# Altium footprint library 541020504.PcbLib: 1 footprints
Each footprint in its own frame and in the unit in brackets; x right, y up, seen from the top. Pads: shape width x height; smd on the part's side, far side on the other; paste and mask are expansions set on the pad; w line width, h text height; cw(c..) or ccw(c..) is an arc to the next point about the centre after c.
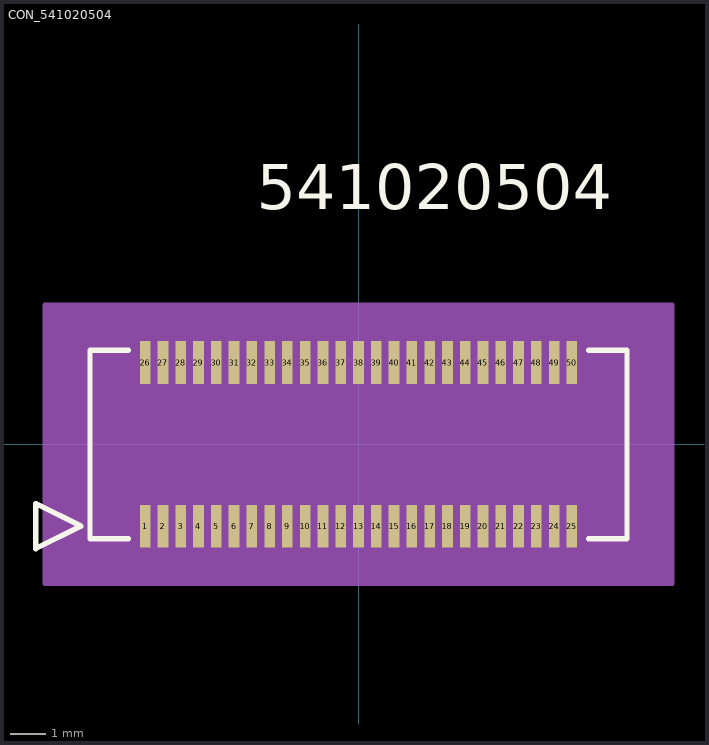
[diagram p0: the footprint, top view; thin cyan lines are the x and y axes]

## CON_541020504 [mm]
pads (50):
  rect 0.3x1.2 smd paste+0 mask+0.076: 1(-6,-2.3) 2(-5.5,-2.3) 3(-5,-2.3) 4(-4.5,-2.3) 5(-4,-2.3) 6(-3.5,-2.3) 7(-3,-2.3) 8(-2.5,-2.3) 9(-2,-2.3) 10(-1.5,-2.3) 11(-1,-2.3) 12(-0.5,-2.3) 13(0,-2.3) 14(0.5,-2.3) 15(1,-2.3) 16(1.5,-2.3) 17(2,-2.3) 18(2.5,-2.3) 19(3,-2.3) 20(3.5,-2.3) 21(4,-2.3) 22(4.5,-2.3) 23(5,-2.3) 24(5.5,-2.3) 25(6,-2.3) 26(-6,2.3) 27(-5.5,2.3) 28(-5,2.3) 29(-4.5,2.3) 30(-4,2.3) 31(-3.5,2.3) 32(-3,2.3) 33(-2.5,2.3) 34(-2,2.3) 35(-1.5,2.3) 36(-1,2.3) 37(-0.5,2.3) 38(0,2.3) 39(0.5,2.3) 40(1,2.3) 41(1.5,2.3) 42(2,2.3) 43(2.5,2.3) 44(3,2.3) 45(3.5,2.3) 46(4,2.3) 47(4.5,2.3) 48(5,2.3) 49(5.5,2.3) 50(6,2.3)
Top Overlay:
  lines w0.152: -6.47,-2.65 -7.55,-2.65 -7.55,2.65 -6.47,2.65 ; 6.47,-2.65 7.55,-2.65 7.55,2.65 6.47,2.65 ; -9.074,-2.935 -9.074,-1.665 -7.804,-2.3 -9.074,-2.935
  text "541020504" at -2.857,6.604 h1.27
Mechanical 13:
  lines w0.127: -9.074,-2.935 -9.074,-1.665 -7.804,-2.3 -9.074,-2.935 ; -7.55,-2.65 7.55,-2.65 7.55,2.65 -7.55,2.65 -7.55,-2.65
  text "541020504" at -2.857,6.604 h1.27
Mechanical 15:
  region: 8.82,3.92 -8.82,3.92 -8.82,-3.92 8.82,-3.92
  lines w0.127: -8.82,-3.92 -8.82,3.92 8.82,3.92 8.82,-3.92 -8.82,-3.92